# Altium schematic symbol library RC0402FR-07124KL.SchLib: 1 symbol
Pins are listed as number, name and electrical type; pins without a type are passive.

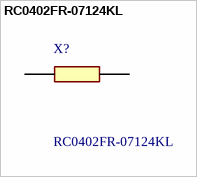
[diagram p0: symbol RC0402FR-07124KL]

## RC0402FR-07124KL
designator X?
RESISTOR, 0402 124K Ohms +/-1% 1/16 W; Manufacturer_Name: Yageo Group; Geometry.Height: 0.4mm; Mouser Part Number: 603-RC0402FR-07124KL; Mouser Price/Stock: https://www.mouser.com/Search/Refine.aspx?Keyword=603-RC0402FR-07124KL; Manufacturer_Part_Number: RC0402FR-07124KL; Datasheet Link: https://componentsearchengine.com/Datasheets/1/RC0402FR-07124KL.pdf
footprint RESC1005X40N
pins: 1, 2